# EAGLE library part MIKE-TEMP_LTC2451 (library PulseOx-v1)
Linear LTC2451 16-bit delta-sigma I2C ADC The LTC®2451 is an ultra-tiny, 16-bit, analog-to-digital converter. The LTC2451 uses a single 2.7V to 5.5V supply, accepts a single-ended analog input voltage and communicates through an I2C interface. The converter is available in an 8-pin, 3mm × 2mm DFN or TSOT-23 package. It includes an integrated oscillator that does not require any external components. It uses a delta-sigma modulator as a converter core and provides single-cycle settling time for multiplexed applications. The LTC2451 includes a proprietary input sampling scheme that reduces the average input sampling current several orders of magnitude lower than conventional ?? converters. The LTC2451 is capable of up to 60 conversions per second and, due to the very large oversampling ratio, has extremely relaxed antialiasing requirements. In the 30Hz mode, the LTC2451 includes continuous internal offset calibration algorithms which are transparent to the user, ensuring accuracy over time and over the operating temperature range. The converter has external REF+ and REF? pins and the input voltage can range from VREF ? to VREF +. If VREF + = VCC and VREF ? = GND, the input voltage can range from GND to VCC. Following a single conversion, the LTC2451 can automatically enter sleep mode and reduce its power to less than 0.2?A. If the user reads the ADC once per second, the LTC2451 consumes an average of less than 50?W from a 2.7V supply.
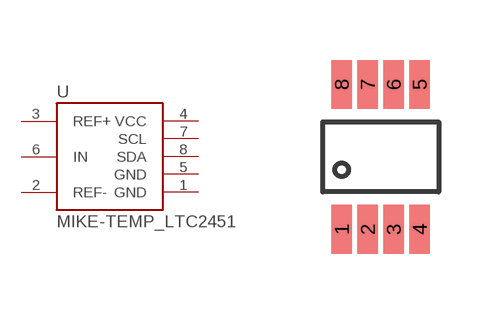
[diagram p7: symbol with the pads of MIKE-TEMP_TS8; footprint MIKE-TEMP_TS8]

Designator prefix U

## MIKE-TEMP_LTC2451-TS8  [MIKE-TEMP_TS8]
1  GND  pwr
2  REF-
3  REF+
4  VCC  pwr
5  GND  pwr
6  IN
7  SCL
8  SDA

## Footprint MIKE-TEMP_TS8 (pad centres in mm)
smd 0.52 x 1.22: 1 -0.975,-1.81; 2 -0.325,-1.81; 3 0.325,-1.81; 4 0.975,-1.81; 5 0.975,1.81; 6 0.325,1.81; 7 -0.325,1.81; 8 -0.975,1.81